# Altium integrated library Analog Devices Data Converters Analog-to-Digital Converters.IntLib: 2404 symbols (part 195 of 346)
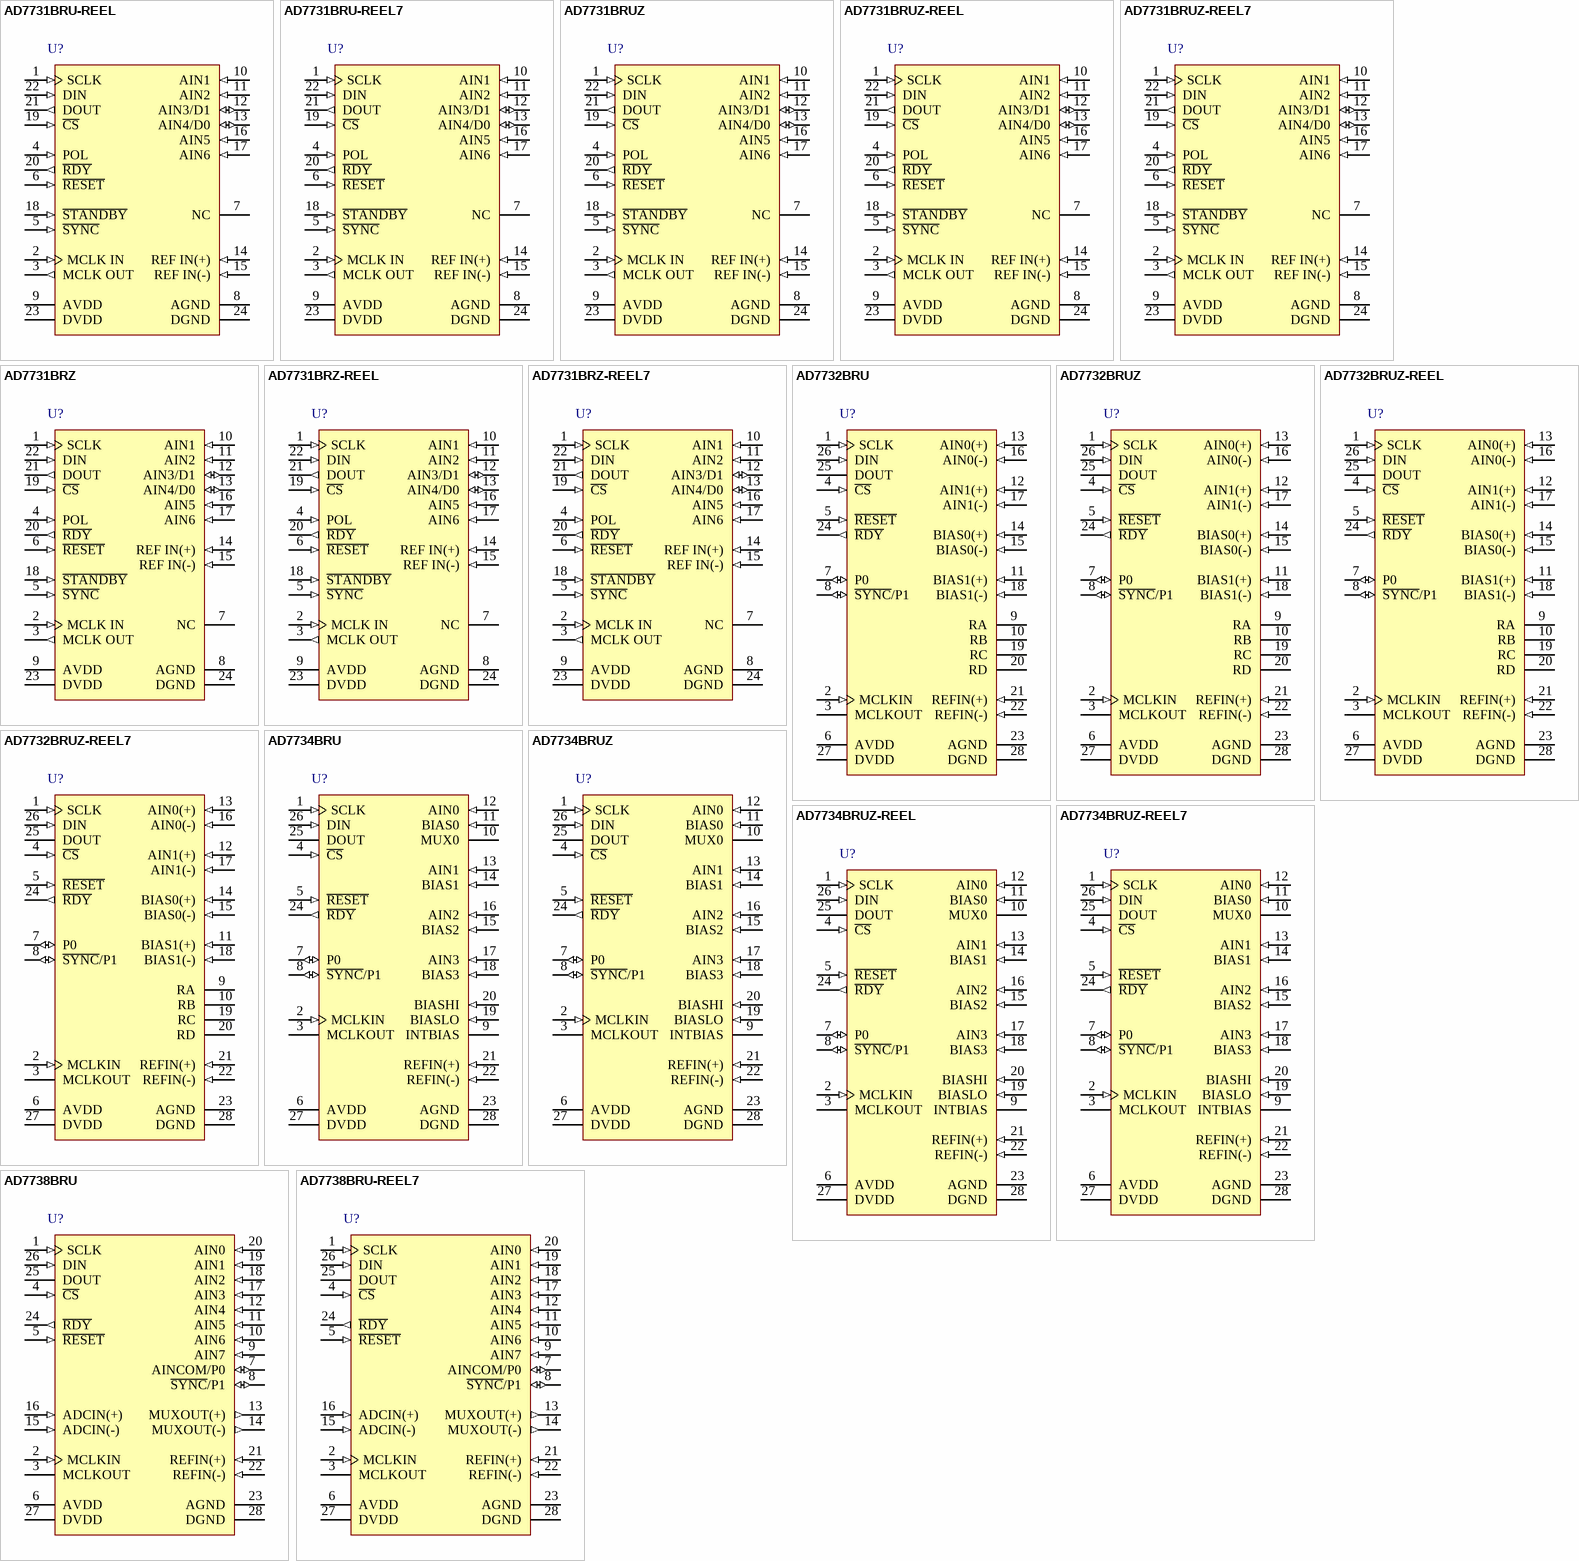
[diagram p260: symbols AD7731BRU-REEL to AD7738BRU-REEL7]

## AD7734BRU
designator U?
Quad 24-Bit Sigma-Delta Analog-to-Digital Converter with Serial, SPI Interface, +/-10 V, 15.4KSPS, -40 to +105 degC, RU-28, Tube; Generic Part Number: AD7734; Manufacturer: Analog Devices; PartNumber: AD7734BRU; Resolution (Bits): 24; Channels: 4; Throughput Rate (SPS): 15.4K; Interface: Ser, SPI; DatasheetVersion: Rev.0; PackageVersion: 2005; PackageReference: RU-28; PackageDescription: 28-Lead Thin Shrink Small Outline Package [TSSOP]; Supplier 1: Digi-Key; Supplier Part Number 1: AD7734BRU-ND; Supplier 2: Mouser; Supplier Part Number 2: 584-AD7734BRU; RoHS: N; Packing: Tube; Mounting Technology: Surface Mount; Code_JEDEC: MO-153-AE; ComponentLink1Description: Manufacturer URL; ComponentLink1URL: http://www.analog.com/en/index.html; ComponentLink2Description: Datasheet; ComponentLink2URL: http://www.analog.com/static/imported-files/data_sheets/AD7734.pdf; ComponentLink3Description: Package Specification; ComponentLink3URL: http://www.analog.com/static/imported-files/packages/249854663RU_28.pdf; ComponentLink4Description: Product URL; ComponentLink4URL: http://www.analog.com/en/analog-to-digital-converters/ad-converters/ad7734/products/product.html
footprint RU-28_N (TSOP, 28-Leads, Body 9.7x4.4mm, Pitch 0.65mm, IPC Medium Density)
footprint RU-28_L (TSOP, 28-Leads, Body 9.7x4.4mm, Pitch 0.65mm, IPC High Density)
footprint RU-28_M (TSOP, 28-Leads, Body 9.7x4.4mm, Pitch 0.65mm, IPC Low Density)
pins: 1 SCLK (in) "Serial Clock. Schmitt triggered logic input. An external serial clock is applied to this input to transfer serial data to or from the AD7734.", 2 MCLKIN (in) "Master Clock Signal for the ADC. This can be provided in the form of a crystal/resonator or external clock. A crystal/resonator can be tied across the MCLKIN and MCLKOUT pins. Alternatively, the MCLKIN pin can be driven with (See Datasheet)", 3 MCLKOUT (hiz) "When the master clock for the device is a crystal/resonator, the crystal/resonator is connected between MCLKIN and MCLKOUT. If an external clock is applied to the MCLKIN, MCLKOUT provides an inverted clock signal or can be (See Datasheet)", 4 ~{CS} (in) "Chip Select. Active low Schmitt triggered logic input with an internal pull-up resistor. With this input hardwired low, the AD7734 can operate in its 3-wire interface mode using SCLK, DIN, and DOUT. C\S\ can be used to (See Datasheet)", 5 ~{RESET} (in) "Schmitt Triggered Logic Input. Active low input that resets the control logic, interface logic, digital filter, analog modulator, and all on-chip registers of the part to power-on status. Effectively, everything on the part (See Datasheet)", 6 AVDD (power) "Analog Positive Supply Voltage. 5 V to AGND nominal.", 7 P0 (io) "Digital Input/Output. The pin direction is determined by the P0 DIR bit; the digital value can be read/written as the P0 bit in the I/O port register. The digital voltage is referenced to analog supplies. When configured as (See Datasheet)", 8 ~{SYNC}/P1 (io) "S\Y\N\C\/Digital Input/Digital Output. The pin direction is determined by the P1 DIR bit; the digital value can be read/written as the P1 bit in the I/O port register. When the SYNC bit in the I/O port register is set to 1, (See Datasheet)", 9 INTBIAS "This pin provides direct access to the analog input’s common node, bypassing the input resistor divider. In normal circuit configuration, this pin is left open circuit.", 10 MUX0 "This pin provides direct access to the multiplexer input of Channel 0, bypassing the input resistor divider. The input voltage range is 0 V to +0.625 V, +/-0.625 V, 0 V to +1.25 V, or +/-1.25 V referenced to the INTBIAS pin. (See Datasheet)", 11 BIAS0 (in) "These inputs are used to level shift the analog inputs. These signals are used to ensure that the differential signal seen by the internal buffer amplifier is within its common-mode range. The BIAS0 to BIAS3 pins will (See Datasheet)", 12 AIN0 (in) "Analog Inputs.", 13 AIN1 (in) "Analog Inputs.", 14 BIAS1 (in) "These inputs are used to level shift the analog inputs. These signals are used to ensure that the differential signal seen by the internal buffer amplifier is within its common-mode range. The BIAS0 to BIAS3 pins will (See Datasheet)", 15 BIAS2 (in) "These inputs are used to level shift the analog inputs. These signals are used to ensure that the differential signal seen by the internal buffer amplifier is within its common-mode range. The BIAS0 to BIAS3 pins will (See Datasheet)", 16 AIN2 (in) "Analog Inputs.", 17 AIN3 (in) "Analog Inputs.", 18 BIAS3 (in) "These inputs are used to level shift the analog inputs. These signals are used to ensure that the differential signal seen by the internal buffer amplifier is within its common-mode range. The BIAS0 to BIAS3 pins will (See Datasheet)", 19 BIASLO (in) "BIASLO, in association with BIASHI, is used to set the analog input common-mode voltage. Assuming the BIAS0 to BIAS3 and BIASHI pins are connected to 2.5 V, the analog input voltages are referenced to the voltage at BIASLO. (See Datasheet)", 20 BIASHI (in) "BIASHI, in association with BIASLO, is used to set the analog input common-mode voltage. In normal circuit configuration, this pin should be connected to 2.5 V.", 21 REFIN(+) (in) "Positive Terminal of the Differential Reference Input. REFIN(+) voltage potential can lie anywhere between AVDD and AGND. In normal circuit configuration, this pin should be connected to a 2.5 V reference voltage.", 22 REFIN(-) (in) "Negative Terminal of the Differential Reference Input. REFIN(-) voltage potential can lie anywhere between AVDD and AGND. In normal circuit configuration, this pin should be connected to a 0 V reference voltage.", 23 AGND (power) "Ground Reference Point for Analog Circuitry.", 24 ~{RDY} (out) "Logic Output. Used as a status output in both conversion mode and calibration mode. In conversion mode, a falling edge on this output indicates that either any channel or all channels have unread data available, according to (See Datasheet)", 25 DOUT (hiz) "Serial data output with serial data being read from the output shift register on the part. This output shift register can contain information from any AD7734 register, depending on the address bits of the communications (See Datasheet)", 26 DIN (in) "Serial data input (Schmitt triggered) with serial data being written to the input shift register on the part. Data from this input shift register is transferred to any AD7734 register, depending on the address bits of the (See Datasheet)", 27 DVDD (power) "Digital Supply Voltage, 3 V or 5 V Nominal.", 28 DGND (power) "Ground Reference Point for Digital Circuitry."

## AD7734BRUZ
designator U?
Quad 24-Bit Sigma-Delta Analog-to-Digital Converter with Serial, SPI Interface, +/-10 V, 15.4KSPS, -40 to +105 degC, RU-28, Pb-Free, Tube; Generic Part Number: AD7734; Manufacturer: Analog Devices; PartNumber: AD7734BRUZ; Resolution (Bits): 24; Channels: 4; Throughput Rate (SPS): 15.4K; Interface: Ser, SPI; DatasheetVersion: Rev.0; PackageVersion: 2005; PackageReference: RU-28; PackageDescription: 28-Lead Thin Shrink Small Outline Package [TSSOP]; Supplier 1: Digi-Key; Supplier Part Number 1: AD7734BRUZ-ND; Supplier 2: Farnell; Supplier Part Number 2: 1581938; Supplier 3: Newark; Supplier Part Number 3: 19M8852; Supplier 4: Mouser; Supplier Part Number 4: 584-AD7734BRUZ; RoHS: Y; Packing: Tube; Mounting Technology: Surface Mount; Code_JEDEC: MO-153-AE; ComponentLink1Description: Manufacturer URL; ComponentLink1URL: http://www.analog.com/en/index.html; ComponentLink2Description: Datasheet; ComponentLink2URL: http://www.analog.com/static/imported-files/data_sheets/AD7734.pdf; ComponentLink3Description: Package Specification; ComponentLink3URL: http://www.analog.com/static/imported-files/packages/249854663RU_28.pdf; ComponentLink4Description: Product URL; ComponentLink4URL: http://www.analog.com/en/analog-to-digital-converters/ad-converters/ad7734/products/product.html
footprint RU-28_N (TSOP, 28-Leads, Body 9.7x4.4mm, Pitch 0.65mm, IPC Medium Density)
footprint RU-28_L (TSOP, 28-Leads, Body 9.7x4.4mm, Pitch 0.65mm, IPC High Density)
footprint RU-28_M (TSOP, 28-Leads, Body 9.7x4.4mm, Pitch 0.65mm, IPC Low Density)
pins: 1 SCLK (in) "Serial Clock. Schmitt triggered logic input. An external serial clock is applied to this input to transfer serial data to or from the AD7734.", 2 MCLKIN (in) "Master Clock Signal for the ADC. This can be provided in the form of a crystal/resonator or external clock. A crystal/resonator can be tied across the MCLKIN and MCLKOUT pins. Alternatively, the MCLKIN pin can be driven with (See Datasheet)", 3 MCLKOUT (hiz) "When the master clock for the device is a crystal/resonator, the crystal/resonator is connected between MCLKIN and MCLKOUT. If an external clock is applied to the MCLKIN, MCLKOUT provides an inverted clock signal or can be (See Datasheet)", 4 ~{CS} (in) "Chip Select. Active low Schmitt triggered logic input with an internal pull-up resistor. With this input hardwired low, the AD7734 can operate in its 3-wire interface mode using SCLK, DIN, and DOUT. C\S\ can be used to (See Datasheet)", 5 ~{RESET} (in) "Schmitt Triggered Logic Input. Active low input that resets the control logic, interface logic, digital filter, analog modulator, and all on-chip registers of the part to power-on status. Effectively, everything on the part (See Datasheet)", 6 AVDD (power) "Analog Positive Supply Voltage. 5 V to AGND nominal.", 7 P0 (io) "Digital Input/Output. The pin direction is determined by the P0 DIR bit; the digital value can be read/written as the P0 bit in the I/O port register. The digital voltage is referenced to analog supplies. When configured as (See Datasheet)", 8 ~{SYNC}/P1 (io) "S\Y\N\C\/Digital Input/Digital Output. The pin direction is determined by the P1 DIR bit; the digital value can be read/written as the P1 bit in the I/O port register. When the SYNC bit in the I/O port register is set to 1, (See Datasheet)", 9 INTBIAS "This pin provides direct access to the analog input’s common node, bypassing the input resistor divider. In normal circuit configuration, this pin is left open circuit.", 10 MUX0 "This pin provides direct access to the multiplexer input of Channel 0, bypassing the input resistor divider. The input voltage range is 0 V to +0.625 V, +/-0.625 V, 0 V to +1.25 V, or +/-1.25 V referenced to the INTBIAS pin. (See Datasheet)", 11 BIAS0 (in) "These inputs are used to level shift the analog inputs. These signals are used to ensure that the differential signal seen by the internal buffer amplifier is within its common-mode range. The BIAS0 to BIAS3 pins will (See Datasheet)", 12 AIN0 (in) "Analog Inputs.", 13 AIN1 (in) "Analog Inputs.", 14 BIAS1 (in) "These inputs are used to level shift the analog inputs. These signals are used to ensure that the differential signal seen by the internal buffer amplifier is within its common-mode range. The BIAS0 to BIAS3 pins will (See Datasheet)", 15 BIAS2 (in) "These inputs are used to level shift the analog inputs. These signals are used to ensure that the differential signal seen by the internal buffer amplifier is within its common-mode range. The BIAS0 to BIAS3 pins will (See Datasheet)", 16 AIN2 (in) "Analog Inputs.", 17 AIN3 (in) "Analog Inputs.", 18 BIAS3 (in) "These inputs are used to level shift the analog inputs. These signals are used to ensure that the differential signal seen by the internal buffer amplifier is within its common-mode range. The BIAS0 to BIAS3 pins will (See Datasheet)", 19 BIASLO (in) "BIASLO, in association with BIASHI, is used to set the analog input common-mode voltage. Assuming the BIAS0 to BIAS3 and BIASHI pins are connected to 2.5 V, the analog input voltages are referenced to the voltage at BIASLO. (See Datasheet)", 20 BIASHI (in) "BIASHI, in association with BIASLO, is used to set the analog input common-mode voltage. In normal circuit configuration, this pin should be connected to 2.5 V.", 21 REFIN(+) (in) "Positive Terminal of the Differential Reference Input. REFIN(+) voltage potential can lie anywhere between AVDD and AGND. In normal circuit configuration, this pin should be connected to a 2.5 V reference voltage.", 22 REFIN(-) (in) "Negative Terminal of the Differential Reference Input. REFIN(-) voltage potential can lie anywhere between AVDD and AGND. In normal circuit configuration, this pin should be connected to a 0 V reference voltage.", 23 AGND (power) "Ground Reference Point for Analog Circuitry.", 24 ~{RDY} (out) "Logic Output. Used as a status output in both conversion mode and calibration mode. In conversion mode, a falling edge on this output indicates that either any channel or all channels have unread data available, according to (See Datasheet)", 25 DOUT (hiz) "Serial data output with serial data being read from the output shift register on the part. This output shift register can contain information from any AD7734 register, depending on the address bits of the communications (See Datasheet)", 26 DIN (in) "Serial data input (Schmitt triggered) with serial data being written to the input shift register on the part. Data from this input shift register is transferred to any AD7734 register, depending on the address bits of the (See Datasheet)", 27 DVDD (power) "Digital Supply Voltage, 3 V or 5 V Nominal.", 28 DGND (power) "Ground Reference Point for Digital Circuitry."

## AD7734BRUZ-REEL
designator U?
Quad 24-Bit Sigma-Delta Analog-to-Digital Converter with Serial, SPI Interface, +/-10 V, 15.4KSPS, -40 to +105 degC, RU-28, Pb-Free, Reel; Generic Part Number: AD7734; Manufacturer: Analog Devices; PartNumber: AD7734BRUZ-REEL; Resolution (Bits): 24; Channels: 4; Throughput Rate (SPS): 15.4K; Interface: Ser, SPI; DatasheetVersion: Rev.0; PackageVersion: 2005; PackageReference: RU-28; PackageDescription: 28-Lead Thin Shrink Small Outline Package [TSSOP]; Supplier 1: Digi-Key; Supplier Part Number 1: AD7734BRUZ-REEL-ND; Supplier 2: Mouser; Supplier Part Number 2: 584-AD7734BRUZ-R; RoHS: Y; Packing: Reel; Mounting Technology: Surface Mount; Code_JEDEC: MO-153-AE; ComponentLink1Description: Manufacturer URL; ComponentLink1URL: http://www.analog.com/en/index.html; ComponentLink2Description: Datasheet; ComponentLink2URL: http://www.analog.com/static/imported-files/data_sheets/AD7734.pdf; ComponentLink3Description: Package Specification; ComponentLink3URL: http://www.analog.com/static/imported-files/packages/249854663RU_28.pdf; ComponentLink4Description: Product URL; ComponentLink4URL: http://www.analog.com/en/analog-to-digital-converters/ad-converters/ad7734/products/product.html
footprint RU-28_N (TSOP, 28-Leads, Body 9.7x4.4mm, Pitch 0.65mm, IPC Medium Density)
footprint RU-28_L (TSOP, 28-Leads, Body 9.7x4.4mm, Pitch 0.65mm, IPC High Density)
footprint RU-28_M (TSOP, 28-Leads, Body 9.7x4.4mm, Pitch 0.65mm, IPC Low Density)
pins: 1 SCLK (in) "Serial Clock. Schmitt triggered logic input. An external serial clock is applied to this input to transfer serial data to or from the AD7734.", 2 MCLKIN (in) "Master Clock Signal for the ADC. This can be provided in the form of a crystal/resonator or external clock. A crystal/resonator can be tied across the MCLKIN and MCLKOUT pins. Alternatively, the MCLKIN pin can be driven with (See Datasheet)", 3 MCLKOUT (hiz) "When the master clock for the device is a crystal/resonator, the crystal/resonator is connected between MCLKIN and MCLKOUT. If an external clock is applied to the MCLKIN, MCLKOUT provides an inverted clock signal or can be (See Datasheet)", 4 ~{CS} (in) "Chip Select. Active low Schmitt triggered logic input with an internal pull-up resistor. With this input hardwired low, the AD7734 can operate in its 3-wire interface mode using SCLK, DIN, and DOUT. C\S\ can be used to (See Datasheet)", 5 ~{RESET} (in) "Schmitt Triggered Logic Input. Active low input that resets the control logic, interface logic, digital filter, analog modulator, and all on-chip registers of the part to power-on status. Effectively, everything on the part (See Datasheet)", 6 AVDD (power) "Analog Positive Supply Voltage. 5 V to AGND nominal.", 7 P0 (io) "Digital Input/Output. The pin direction is determined by the P0 DIR bit; the digital value can be read/written as the P0 bit in the I/O port register. The digital voltage is referenced to analog supplies. When configured as (See Datasheet)", 8 ~{SYNC}/P1 (io) "S\Y\N\C\/Digital Input/Digital Output. The pin direction is determined by the P1 DIR bit; the digital value can be read/written as the P1 bit in the I/O port register. When the SYNC bit in the I/O port register is set to 1, (See Datasheet)", 9 INTBIAS "This pin provides direct access to the analog input’s common node, bypassing the input resistor divider. In normal circuit configuration, this pin is left open circuit.", 10 MUX0 "This pin provides direct access to the multiplexer input of Channel 0, bypassing the input resistor divider. The input voltage range is 0 V to +0.625 V, +/-0.625 V, 0 V to +1.25 V, or +/-1.25 V referenced to the INTBIAS pin. (See Datasheet)", 11 BIAS0 (in) "These inputs are used to level shift the analog inputs. These signals are used to ensure that the differential signal seen by the internal buffer amplifier is within its common-mode range. The BIAS0 to BIAS3 pins will (See Datasheet)", 12 AIN0 (in) "Analog Inputs.", 13 AIN1 (in) "Analog Inputs.", 14 BIAS1 (in) "These inputs are used to level shift the analog inputs. These signals are used to ensure that the differential signal seen by the internal buffer amplifier is within its common-mode range. The BIAS0 to BIAS3 pins will (See Datasheet)", 15 BIAS2 (in) "These inputs are used to level shift the analog inputs. These signals are used to ensure that the differential signal seen by the internal buffer amplifier is within its common-mode range. The BIAS0 to BIAS3 pins will (See Datasheet)", 16 AIN2 (in) "Analog Inputs.", 17 AIN3 (in) "Analog Inputs.", 18 BIAS3 (in) "These inputs are used to level shift the analog inputs. These signals are used to ensure that the differential signal seen by the internal buffer amplifier is within its common-mode range. The BIAS0 to BIAS3 pins will (See Datasheet)", 19 BIASLO (in) "BIASLO, in association with BIASHI, is used to set the analog input common-mode voltage. Assuming the BIAS0 to BIAS3 and BIASHI pins are connected to 2.5 V, the analog input voltages are referenced to the voltage at BIASLO. (See Datasheet)", 20 BIASHI (in) "BIASHI, in association with BIASLO, is used to set the analog input common-mode voltage. In normal circuit configuration, this pin should be connected to 2.5 V.", 21 REFIN(+) (in) "Positive Terminal of the Differential Reference Input. REFIN(+) voltage potential can lie anywhere between AVDD and AGND. In normal circuit configuration, this pin should be connected to a 2.5 V reference voltage.", 22 REFIN(-) (in) "Negative Terminal of the Differential Reference Input. REFIN(-) voltage potential can lie anywhere between AVDD and AGND. In normal circuit configuration, this pin should be connected to a 0 V reference voltage.", 23 AGND (power) "Ground Reference Point for Analog Circuitry.", 24 ~{RDY} (out) "Logic Output. Used as a status output in both conversion mode and calibration mode. In conversion mode, a falling edge on this output indicates that either any channel or all channels have unread data available, according to (See Datasheet)", 25 DOUT (hiz) "Serial data output with serial data being read from the output shift register on the part. This output shift register can contain information from any AD7734 register, depending on the address bits of the communications (See Datasheet)", 26 DIN (in) "Serial data input (Schmitt triggered) with serial data being written to the input shift register on the part. Data from this input shift register is transferred to any AD7734 register, depending on the address bits of the (See Datasheet)", 27 DVDD (power) "Digital Supply Voltage, 3 V or 5 V Nominal.", 28 DGND (power) "Ground Reference Point for Digital Circuitry."

## AD7734BRUZ-REEL7
designator U?
Quad 24-Bit Sigma-Delta Analog-to-Digital Converter with Serial, SPI Interface, +/-10 V, 15.4KSPS, -40 to +105 degC, RU-28, Pb-Free, Reel; Generic Part Number: AD7734; Manufacturer: Analog Devices; PartNumber: AD7734BRUZ-REEL7; Resolution (Bits): 24; Channels: 4; Throughput Rate (SPS): 15.4K; Interface: Ser, SPI; DatasheetVersion: Rev.0; PackageVersion: 2005; PackageReference: RU-28; PackageDescription: 28-Lead Thin Shrink Small Outline Package [TSSOP]; Supplier 1: Digi-Key; Supplier Part Number 1: AD7734BRUZ-REEL7TR-ND; Supplier 2: Digi-Key; Supplier Part Number 2: AD7734BRUZ-REEL7CT-ND; Supplier 3: Digi-Key; Supplier Part Number 3: AD7734BRUZ-REEL7DKR-ND; Supplier 4: Newark; Supplier Part Number 4: 59K5397; Supplier 5: Mouser; Supplier Part Number 5: 584-AD7734BRUZ-R7; RoHS: Y; Packing: Reel; Mounting Technology: Surface Mount; Code_JEDEC: MO-153-AE; ComponentLink1Description: Manufacturer URL; ComponentLink1URL: http://www.analog.com/en/index.html; ComponentLink2Description: Datasheet; ComponentLink2URL: http://www.analog.com/static/imported-files/data_sheets/AD7734.pdf; ComponentLink3Description: Package Specification; ComponentLink3URL: http://www.analog.com/static/imported-files/packages/249854663RU_28.pdf; ComponentLink4Description: Product URL; ComponentLink4URL: http://www.analog.com/en/analog-to-digital-converters/ad-converters/ad7734/products/product.html
footprint RU-28_N (TSOP, 28-Leads, Body 9.7x4.4mm, Pitch 0.65mm, IPC Medium Density)
footprint RU-28_L (TSOP, 28-Leads, Body 9.7x4.4mm, Pitch 0.65mm, IPC High Density)
footprint RU-28_M (TSOP, 28-Leads, Body 9.7x4.4mm, Pitch 0.65mm, IPC Low Density)
pins: 1 SCLK (in) "Serial Clock. Schmitt triggered logic input. An external serial clock is applied to this input to transfer serial data to or from the AD7734.", 2 MCLKIN (in) "Master Clock Signal for the ADC. This can be provided in the form of a crystal/resonator or external clock. A crystal/resonator can be tied across the MCLKIN and MCLKOUT pins. Alternatively, the MCLKIN pin can be driven with (See Datasheet)", 3 MCLKOUT (hiz) "When the master clock for the device is a crystal/resonator, the crystal/resonator is connected between MCLKIN and MCLKOUT. If an external clock is applied to the MCLKIN, MCLKOUT provides an inverted clock signal or can be (See Datasheet)", 4 ~{CS} (in) "Chip Select. Active low Schmitt triggered logic input with an internal pull-up resistor. With this input hardwired low, the AD7734 can operate in its 3-wire interface mode using SCLK, DIN, and DOUT. C\S\ can be used to (See Datasheet)", 5 ~{RESET} (in) "Schmitt Triggered Logic Input. Active low input that resets the control logic, interface logic, digital filter, analog modulator, and all on-chip registers of the part to power-on status. Effectively, everything on the part (See Datasheet)", 6 AVDD (power) "Analog Positive Supply Voltage. 5 V to AGND nominal.", 7 P0 (io) "Digital Input/Output. The pin direction is determined by the P0 DIR bit; the digital value can be read/written as the P0 bit in the I/O port register. The digital voltage is referenced to analog supplies. When configured as (See Datasheet)", 8 ~{SYNC}/P1 (io) "S\Y\N\C\/Digital Input/Digital Output. The pin direction is determined by the P1 DIR bit; the digital value can be read/written as the P1 bit in the I/O port register. When the SYNC bit in the I/O port register is set to 1, (See Datasheet)", 9 INTBIAS "This pin provides direct access to the analog input’s common node, bypassing the input resistor divider. In normal circuit configuration, this pin is left open circuit.", 10 MUX0 "This pin provides direct access to the multiplexer input of Channel 0, bypassing the input resistor divider. The input voltage range is 0 V to +0.625 V, +/-0.625 V, 0 V to +1.25 V, or +/-1.25 V referenced to the INTBIAS pin. (See Datasheet)", 11 BIAS0 (in) "These inputs are used to level shift the analog inputs. These signals are used to ensure that the differential signal seen by the internal buffer amplifier is within its common-mode range. The BIAS0 to BIAS3 pins will (See Datasheet)", 12 AIN0 (in) "Analog Inputs.", 13 AIN1 (in) "Analog Inputs.", 14 BIAS1 (in) "These inputs are used to level shift the analog inputs. These signals are used to ensure that the differential signal seen by the internal buffer amplifier is within its common-mode range. The BIAS0 to BIAS3 pins will (See Datasheet)", 15 BIAS2 (in) "These inputs are used to level shift the analog inputs. These signals are used to ensure that the differential signal seen by the internal buffer amplifier is within its common-mode range. The BIAS0 to BIAS3 pins will (See Datasheet)", 16 AIN2 (in) "Analog Inputs.", 17 AIN3 (in) "Analog Inputs.", 18 BIAS3 (in) "These inputs are used to level shift the analog inputs. These signals are used to ensure that the differential signal seen by the internal buffer amplifier is within its common-mode range. The BIAS0 to BIAS3 pins will (See Datasheet)", 19 BIASLO (in) "BIASLO, in association with BIASHI, is used to set the analog input common-mode voltage. Assuming the BIAS0 to BIAS3 and BIASHI pins are connected to 2.5 V, the analog input voltages are referenced to the voltage at BIASLO. (See Datasheet)", 20 BIASHI (in) "BIASHI, in association with BIASLO, is used to set the analog input common-mode voltage. In normal circuit configuration, this pin should be connected to 2.5 V.", 21 REFIN(+) (in) "Positive Terminal of the Differential Reference Input. REFIN(+) voltage potential can lie anywhere between AVDD and AGND. In normal circuit configuration, this pin should be connected to a 2.5 V reference voltage.", 22 REFIN(-) (in) "Negative Terminal of the Differential Reference Input. REFIN(-) voltage potential can lie anywhere between AVDD and AGND. In normal circuit configuration, this pin should be connected to a 0 V reference voltage.", 23 AGND (power) "Ground Reference Point for Analog Circuitry.", 24 ~{RDY} (out) "Logic Output. Used as a status output in both conversion mode and calibration mode. In conversion mode, a falling edge on this output indicates that either any channel or all channels have unread data available, according to (See Datasheet)", 25 DOUT (hiz) "Serial data output with serial data being read from the output shift register on the part. This output shift register can contain information from any AD7734 register, depending on the address bits of the communications (See Datasheet)", 26 DIN (in) "Serial data input (Schmitt triggered) with serial data being written to the input shift register on the part. Data from this input shift register is transferred to any AD7734 register, depending on the address bits of the (See Datasheet)", 27 DVDD (power) "Digital Supply Voltage, 3 V or 5 V Nominal.", 28 DGND (power) "Ground Reference Point for Digital Circuitry."

## AD7738BRU
designator U?
Octal 24-Bit Sigma-Delta Analog-to-Digital Converter with Serial, SPI Interface, 15.4KSPS, -40 to +105 degC, RU-28, Tube; Generic Part Number: AD7738; Manufacturer: Analog Devices; PartNumber: AD7738BRU; Resolution (Bits): 24; Channels: 8; Throughput Rate (SPS): 15.4K; Interface: Ser, SPI; DatasheetVersion: Rev.0; PackageVersion: 2005; PackageReference: RU-28; PackageDescription: 28-Lead Thin Shrink Small Outline Package [TSSOP]; Supplier 1: Digi-Key; Supplier Part Number 1: AD7738BRU-ND; Supplier 2: Mouser; Supplier Part Number 2: 584-AD7738BRU; RoHS: N; Packing: Tube; Mounting Technology: Surface Mount; Code_JEDEC: MO-153-AE; ComponentLink1Description: Manufacturer URL; ComponentLink1URL: http://www.analog.com/en/index.html; ComponentLink2Description: Datasheet; ComponentLink2URL: http://www.analog.com/static/imported-files/data_sheets/AD7738.pdf; ComponentLink3Description: Package Specification; ComponentLink3URL: http://www.analog.com/static/imported-files/packages/249854663RU_28.pdf; ComponentLink4Description: Product URL; ComponentLink4URL: http://www.analog.com/en/analog-to-digital-converters/ad-converters/ad7738/products/product.html
footprint RU-28_N (TSOP, 28-Leads, Body 9.7x4.4mm, Pitch 0.65mm, IPC Medium Density)
footprint RU-28_L (TSOP, 28-Leads, Body 9.7x4.4mm, Pitch 0.65mm, IPC High Density)
footprint RU-28_M (TSOP, 28-Leads, Body 9.7x4.4mm, Pitch 0.65mm, IPC Low Density)
pins: 1 SCLK (in) "Serial Clock. Schmitt-Triggered Logic Input. An external serial clock is applied to this input to transfer serial data to or from the AD7738.", 2 MCLKIN (in) "Master Clock Signal for the ADC. This can be provided in the form of a crystal/resonator or external clock. A crystal/resonator can be tied across the MCLKIN and MCLKOUT pins. Alternatively, the MCLKIN pin can be driven with (See Datasheet)", 3 MCLKOUT (hiz) "When the master clock for the device is a crystal/resonator, the crystal/resonator is connected between MCLKIN and MCLKOUT. If an external clock is applied to the MCLKIN, MCLKOUT provides an inverted clock signal or can be (See Datasheet)", 4 ~{CS} (in) "Chip Select. Active low Schmitt triggered logic input with an internal pull-up resistor. With this input hardwired low, the AD7738 can operate in its 3-wire interface mode using SCLK, DIN, and DOUT. C\S\ can be used to (See Datasheet)", 5 ~{RESET} (in) "Schmitt-Triggered Logic Input. Active low input that resets the control logic, interface logic, digital filter, analog modulator, and all on-chip registers of the part to power-on status. Effectively, everything on the part (See Datasheet)", 6 AVDD (power) "Analog Positive Supply Voltage. 5 V to AGND nominal.", 7 AINCOM/P0 (io) "Analog Inputs Common Terminal/Digital Output. The pin is determined by the P0 Dir bit; the digital value can be written as the P0 bit in the I/O Port register. The digital voltage is referenced to analog supplies. When (See Datasheet)", 8 ~{SYNC}/P1 (io) "S\Y\N\C\/Digital Input/Digital Output. The pin direction is determined by the P1 Dir bit; the digital value can be read/written as the P1 bit in the I/O Port register. When the SYNC Enable bit in the I/O Port register is set (See Datasheet)", 9 AIN7 (in) "Analog Inputs", 10 AIN6 (in) "Analog Inputs", 11 AIN5 (in) "Analog Inputs", 12 AIN4 (in) "Analog Inputs", 13 MUXOUT(+) (out) "Analog Multiplexer Positive Output", 14 MUXOUT(-) (out) "Analog Multiplexer Negative Output", 15 ADCIN(-) (in) "ADC Negative Input. In normal circuit configuration, this pin should be connected to the MUXOUT- pin.", 16 ADCIN(+) (in) "ADC Positive Input. In normal circuit configuration, this pin should be connected to the MUXOUT+ pin.", 17 AIN3 (in) "Analog Inputs", 18 AIN2 (in) "Analog Inputs", 19 AIN1 (in) "Analog Inputs", 20 AIN0 (in) "Analog Inputs", 21 REFIN(+) (in) "Positive Terminal of the Differential Reference Input. REFIN+ voltage potential can lie any where between AVDD and AGND. In normal circuit configuration, this pin should be connected to a 2.5 V reference voltage.", 22 REFIN(-) (in) "Negative Terminal of the Differential Reference Input. REFIN- voltage potential can lie any where between AVDD and AGND. In normal circuit configuration, this pin should be connected to a 0 V reference voltage.", 23 AGND (power) "Ground Reference Point for Analog Circuitry", 24 ~{RDY} (out) "Logic Output. Used as a status output in both conversion mode and calibration mode. In conversion mode, a falling edge on this output indicates that either any channel or all channels have unread data available--according to (See Datasheet)", 25 DOUT (hiz) "Serial Data Output with serial data being read from the output shift register on the part. This output shift register can contain information from any AD7738 register depending on the address bits of the Communications (See Datasheet)", 26 DIN (in) "Serial Data Input (Schmitt triggered) with serial data being written to the input shift register on the part. Data from this input shift register is transferred to any AD7738 register depending on the address bits of the (See Datasheet)", 27 DVDD (power) "Digital Supply Voltage, 3 V or 5 V Nominal", 28 DGND (power) "Ground Reference Point for Digital Circuitry"

## AD7738BRU-REEL7
designator U?
Octal 24-Bit Sigma-Delta Analog-to-Digital Converter with Serial, SPI Interface, 15.4KSPS, -40 to +105 degC, RU-28, Reel; Generic Part Number: AD7738; Manufacturer: Analog Devices; PartNumber: AD7738BRU-REEL7; Resolution (Bits): 24; Channels: 8; Throughput Rate (SPS): 15.4K; Interface: Ser, SPI; DatasheetVersion: Rev.0; PackageVersion: 2005; PackageReference: RU-28; PackageDescription: 28-Lead Thin Shrink Small Outline Package [TSSOP]; Supplier 1: Digi-Key; Supplier Part Number 1: AD7738BRU-REEL7-ND; Supplier 2: Newark; Supplier Part Number 2: 50H3224; Supplier 3: Mouser; Supplier Part Number 3: 584-AD7738BRU-R7; RoHS: N; Packing: Reel; Mounting Technology: Surface Mount; Code_JEDEC: MO-153-AE; ComponentLink1Description: Manufacturer URL; ComponentLink1URL: http://www.analog.com/en/index.html; ComponentLink2Description: Datasheet; ComponentLink2URL: http://www.analog.com/static/imported-files/data_sheets/AD7738.pdf; ComponentLink3Description: Package Specification; ComponentLink3URL: http://www.analog.com/static/imported-files/packages/249854663RU_28.pdf; ComponentLink4Description: Product URL; ComponentLink4URL: http://www.analog.com/en/analog-to-digital-converters/ad-converters/ad7738/products/product.html
footprint RU-28_N (TSOP, 28-Leads, Body 9.7x4.4mm, Pitch 0.65mm, IPC Medium Density)
footprint RU-28_L (TSOP, 28-Leads, Body 9.7x4.4mm, Pitch 0.65mm, IPC High Density)
footprint RU-28_M (TSOP, 28-Leads, Body 9.7x4.4mm, Pitch 0.65mm, IPC Low Density)
pins: 1 SCLK (in) "Serial Clock. Schmitt-Triggered Logic Input. An external serial clock is applied to this input to transfer serial data to or from the AD7738.", 2 MCLKIN (in) "Master Clock Signal for the ADC. This can be provided in the form of a crystal/resonator or external clock. A crystal/resonator can be tied across the MCLKIN and MCLKOUT pins. Alternatively, the MCLKIN pin can be driven with (See Datasheet)", 3 MCLKOUT (hiz) "When the master clock for the device is a crystal/resonator, the crystal/resonator is connected between MCLKIN and MCLKOUT. If an external clock is applied to the MCLKIN, MCLKOUT provides an inverted clock signal or can be (See Datasheet)", 4 ~{CS} (in) "Chip Select. Active low Schmitt triggered logic input with an internal pull-up resistor. With this input hardwired low, the AD7738 can operate in its 3-wire interface mode using SCLK, DIN, and DOUT. C\S\ can be used to (See Datasheet)", 5 ~{RESET} (in) "Schmitt-Triggered Logic Input. Active low input that resets the control logic, interface logic, digital filter, analog modulator, and all on-chip registers of the part to power-on status. Effectively, everything on the part (See Datasheet)", 6 AVDD (power) "Analog Positive Supply Voltage. 5 V to AGND nominal.", 7 AINCOM/P0 (io) "Analog Inputs Common Terminal/Digital Output. The pin is determined by the P0 Dir bit; the digital value can be written as the P0 bit in the I/O Port register. The digital voltage is referenced to analog supplies. When (See Datasheet)", 8 ~{SYNC}/P1 (io) "S\Y\N\C\/Digital Input/Digital Output. The pin direction is determined by the P1 Dir bit; the digital value can be read/written as the P1 bit in the I/O Port register. When the SYNC Enable bit in the I/O Port register is set (See Datasheet)", 9 AIN7 (in) "Analog Inputs", 10 AIN6 (in) "Analog Inputs", 11 AIN5 (in) "Analog Inputs", 12 AIN4 (in) "Analog Inputs", 13 MUXOUT(+) (out) "Analog Multiplexer Positive Output", 14 MUXOUT(-) (out) "Analog Multiplexer Negative Output", 15 ADCIN(-) (in) "ADC Negative Input. In normal circuit configuration, this pin should be connected to the MUXOUT- pin.", 16 ADCIN(+) (in) "ADC Positive Input. In normal circuit configuration, this pin should be connected to the MUXOUT+ pin.", 17 AIN3 (in) "Analog Inputs", 18 AIN2 (in) "Analog Inputs", 19 AIN1 (in) "Analog Inputs", 20 AIN0 (in) "Analog Inputs", 21 REFIN(+) (in) "Positive Terminal of the Differential Reference Input. REFIN+ voltage potential can lie any where between AVDD and AGND. In normal circuit configuration, this pin should be connected to a 2.5 V reference voltage.", 22 REFIN(-) (in) "Negative Terminal of the Differential Reference Input. REFIN- voltage potential can lie any where between AVDD and AGND. In normal circuit configuration, this pin should be connected to a 0 V reference voltage.", 23 AGND (power) "Ground Reference Point for Analog Circuitry", 24 ~{RDY} (out) "Logic Output. Used as a status output in both conversion mode and calibration mode. In conversion mode, a falling edge on this output indicates that either any channel or all channels have unread data available--according to (See Datasheet)", 25 DOUT (hiz) "Serial Data Output with serial data being read from the output shift register on the part. This output shift register can contain information from any AD7738 register depending on the address bits of the Communications (See Datasheet)", 26 DIN (in) "Serial Data Input (Schmitt triggered) with serial data being written to the input shift register on the part. Data from this input shift register is transferred to any AD7738 register depending on the address bits of the (See Datasheet)", 27 DVDD (power) "Digital Supply Voltage, 3 V or 5 V Nominal", 28 DGND (power) "Ground Reference Point for Digital Circuitry"

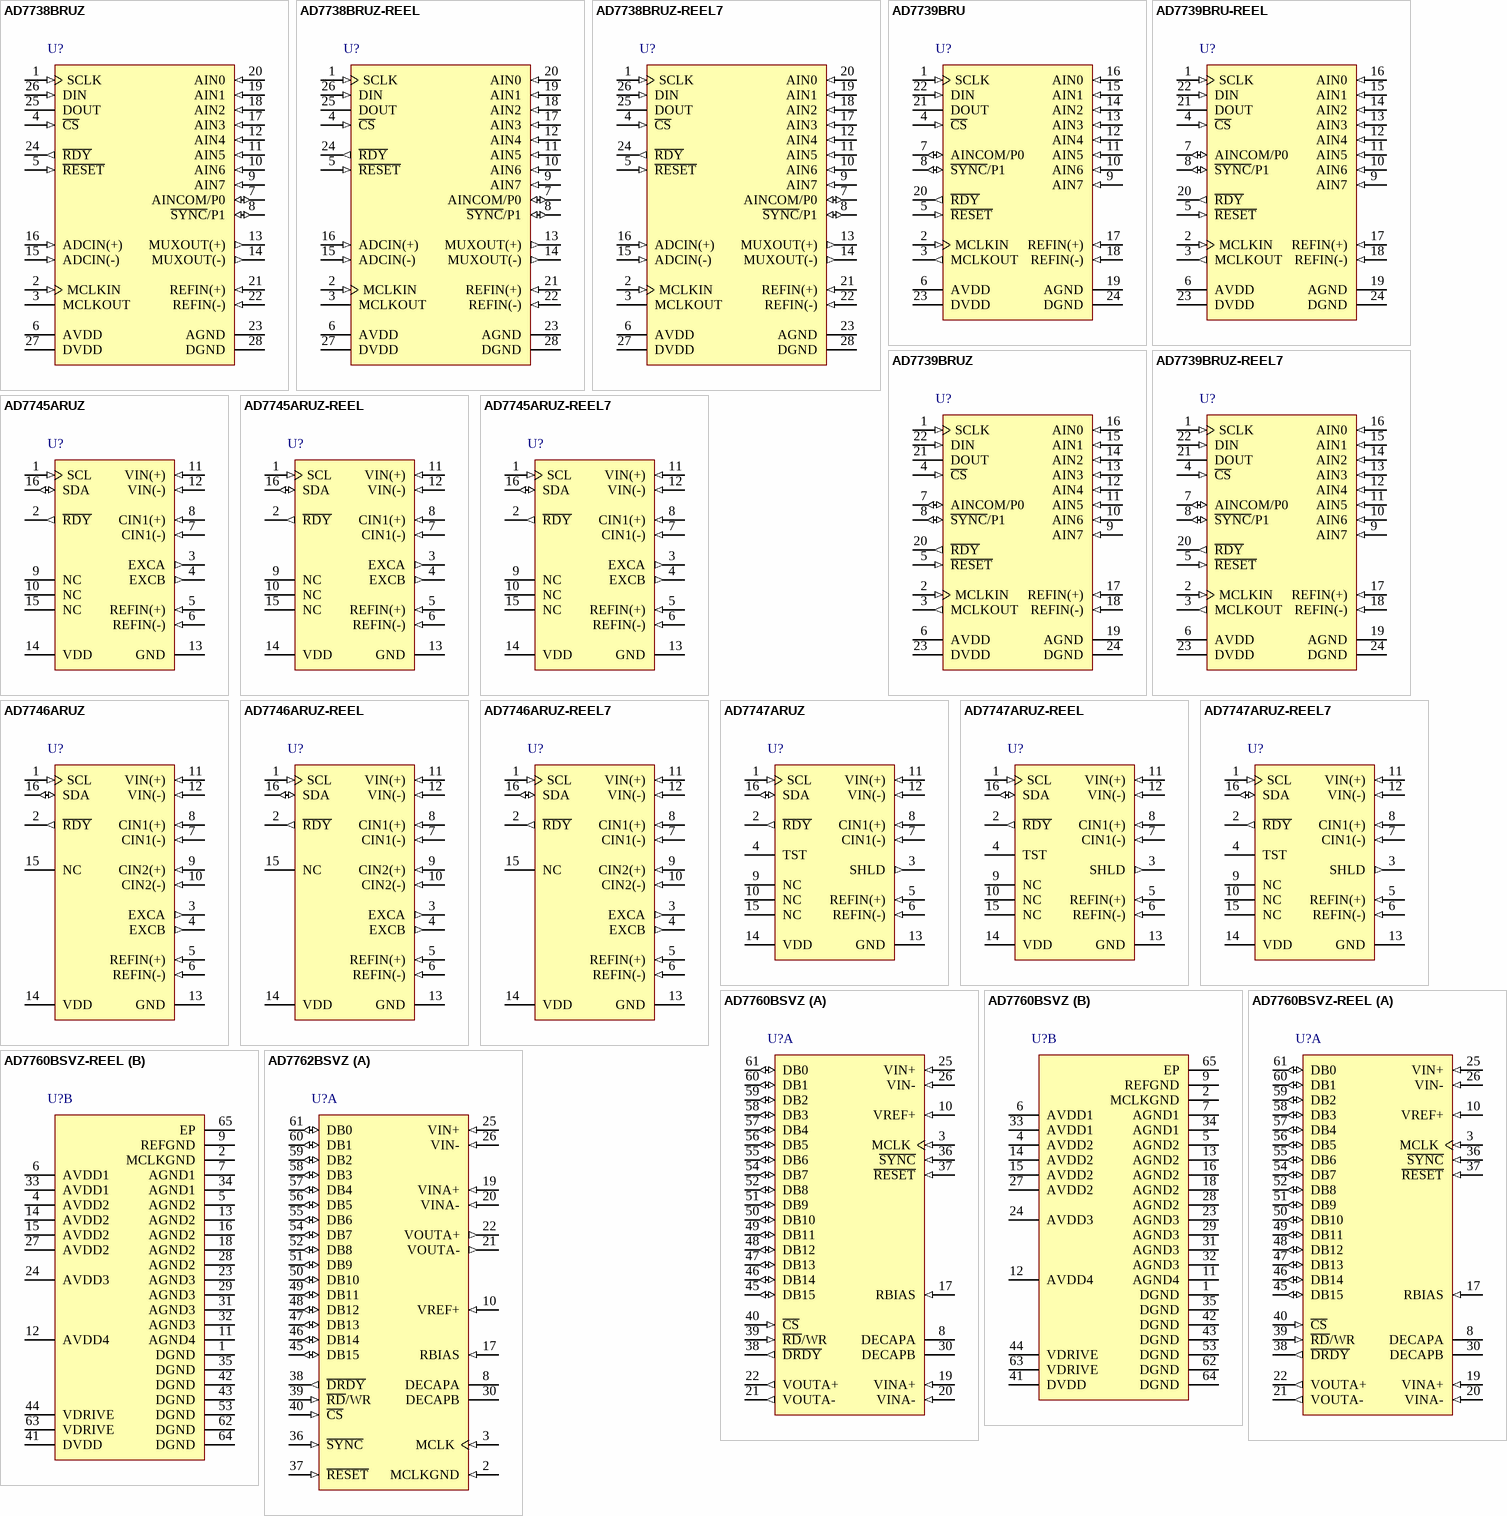
[diagram p59: symbols AD7738BRUZ to AD7762BSVZ]

## AD7738BRUZ
designator U?
Octal 24-Bit Sigma-Delta Analog-to-Digital Converter with Serial, SPI Interface, 15.4KSPS, -40 to +105 degC, RU-28, Pb-Free, Tube; Generic Part Number: AD7738; Manufacturer: Analog Devices; PartNumber: AD7738BRUZ; Resolution (Bits): 24; Channels: 8; Throughput Rate (SPS): 15.4K; Interface: Ser, SPI; DatasheetVersion: Rev.0; PackageVersion: 2005; PackageReference: RU-28; PackageDescription: 28-Lead Thin Shrink Small Outline Package [TSSOP]; Supplier 1: Digi-Key; Supplier Part Number 1: AD7738BRUZ-ND; Supplier 2: Farnell; Supplier Part Number 2: 1581939; Supplier 3: Newark; Supplier Part Number 3: 59K5398; Supplier 4: Mouser; Supplier Part Number 4: 584-AD7738BRUZ; RoHS: Y; Packing: Tube; Mounting Technology: Surface Mount; Code_JEDEC: MO-153-AE; ComponentLink1Description: Manufacturer URL; ComponentLink1URL: http://www.analog.com/en/index.html; ComponentLink2Description: Datasheet; ComponentLink2URL: http://www.analog.com/static/imported-files/data_sheets/AD7738.pdf; ComponentLink3Description: Package Specification; ComponentLink3URL: http://www.analog.com/static/imported-files/packages/249854663RU_28.pdf; ComponentLink4Description: Product URL; ComponentLink4URL: http://www.analog.com/en/analog-to-digital-converters/ad-converters/ad7738/products/product.html
footprint RU-28_N (TSOP, 28-Leads, Body 9.7x4.4mm, Pitch 0.65mm, IPC Medium Density)
footprint RU-28_L (TSOP, 28-Leads, Body 9.7x4.4mm, Pitch 0.65mm, IPC High Density)
footprint RU-28_M (TSOP, 28-Leads, Body 9.7x4.4mm, Pitch 0.65mm, IPC Low Density)
pins: 1 SCLK (in) "Serial Clock. Schmitt-Triggered Logic Input. An external serial clock is applied to this input to transfer serial data to or from the AD7738.", 2 MCLKIN (in) "Master Clock Signal for the ADC. This can be provided in the form of a crystal/resonator or external clock. A crystal/resonator can be tied across the MCLKIN and MCLKOUT pins. Alternatively, the MCLKIN pin can be driven with (See Datasheet)", 3 MCLKOUT (hiz) "When the master clock for the device is a crystal/resonator, the crystal/resonator is connected between MCLKIN and MCLKOUT. If an external clock is applied to the MCLKIN, MCLKOUT provides an inverted clock signal or can be (See Datasheet)", 4 ~{CS} (in) "Chip Select. Active low Schmitt triggered logic input with an internal pull-up resistor. With this input hardwired low, the AD7738 can operate in its 3-wire interface mode using SCLK, DIN, and DOUT. C\S\ can be used to (See Datasheet)", 5 ~{RESET} (in) "Schmitt-Triggered Logic Input. Active low input that resets the control logic, interface logic, digital filter, analog modulator, and all on-chip registers of the part to power-on status. Effectively, everything on the part (See Datasheet)", 6 AVDD (power) "Analog Positive Supply Voltage. 5 V to AGND nominal.", 7 AINCOM/P0 (io) "Analog Inputs Common Terminal/Digital Output. The pin is determined by the P0 Dir bit; the digital value can be written as the P0 bit in the I/O Port register. The digital voltage is referenced to analog supplies. When (See Datasheet)", 8 ~{SYNC}/P1 (io) "S\Y\N\C\/Digital Input/Digital Output. The pin direction is determined by the P1 Dir bit; the digital value can be read/written as the P1 bit in the I/O Port register. When the SYNC Enable bit in the I/O Port register is set (See Datasheet)", 9 AIN7 (in) "Analog Inputs", 10 AIN6 (in) "Analog Inputs", 11 AIN5 (in) "Analog Inputs", 12 AIN4 (in) "Analog Inputs", 13 MUXOUT(+) (out) "Analog Multiplexer Positive Output", 14 MUXOUT(-) (out) "Analog Multiplexer Negative Output", 15 ADCIN(-) (in) "ADC Negative Input. In normal circuit configuration, this pin should be connected to the MUXOUT- pin.", 16 ADCIN(+) (in) "ADC Positive Input. In normal circuit configuration, this pin should be connected to the MUXOUT+ pin.", 17 AIN3 (in) "Analog Inputs", 18 AIN2 (in) "Analog Inputs", 19 AIN1 (in) "Analog Inputs", 20 AIN0 (in) "Analog Inputs", 21 REFIN(+) (in) "Positive Terminal of the Differential Reference Input. REFIN+ voltage potential can lie any where between AVDD and AGND. In normal circuit configuration, this pin should be connected to a 2.5 V reference voltage.", 22 REFIN(-) (in) "Negative Terminal of the Differential Reference Input. REFIN- voltage potential can lie any where between AVDD and AGND. In normal circuit configuration, this pin should be connected to a 0 V reference voltage.", 23 AGND (power) "Ground Reference Point for Analog Circuitry", 24 ~{RDY} (out) "Logic Output. Used as a status output in both conversion mode and calibration mode. In conversion mode, a falling edge on this output indicates that either any channel or all channels have unread data available--according to (See Datasheet)", 25 DOUT (hiz) "Serial Data Output with serial data being read from the output shift register on the part. This output shift register can contain information from any AD7738 register depending on the address bits of the Communications (See Datasheet)", 26 DIN (in) "Serial Data Input (Schmitt triggered) with serial data being written to the input shift register on the part. Data from this input shift register is transferred to any AD7738 register depending on the address bits of the (See Datasheet)", 27 DVDD (power) "Digital Supply Voltage, 3 V or 5 V Nominal", 28 DGND (power) "Ground Reference Point for Digital Circuitry"

## AD7738BRUZ-REEL
designator U?
Octal 24-Bit Sigma-Delta Analog-to-Digital Converter with Serial, SPI Interface, 15.4KSPS, -40 to +105 degC, RU-28, Pb-Free, Reel; Generic Part Number: AD7738; Manufacturer: Analog Devices; PartNumber: AD7738BRUZ-REEL; Resolution (Bits): 24; Channels: 8; Throughput Rate (SPS): 15.4K; Interface: Ser, SPI; DatasheetVersion: Rev.0; PackageVersion: 2005; PackageReference: RU-28; PackageDescription: 28-Lead Thin Shrink Small Outline Package [TSSOP]; Supplier 1: Digi-Key; Supplier Part Number 1: AD7738BRUZ-REEL-ND; Supplier 2: Newark; Supplier Part Number 2: 59K5399; Supplier 3: Mouser; Supplier Part Number 3: 584-AD7738BRUZ-R; RoHS: Y; Packing: Reel; Mounting Technology: Surface Mount; Code_JEDEC: MO-153-AE; ComponentLink1Description: Manufacturer URL; ComponentLink1URL: http://www.analog.com/en/index.html; ComponentLink2Description: Datasheet; ComponentLink2URL: http://www.analog.com/static/imported-files/data_sheets/AD7738.pdf; ComponentLink3Description: Package Specification; ComponentLink3URL: http://www.analog.com/static/imported-files/packages/249854663RU_28.pdf; ComponentLink4Description: Product URL; ComponentLink4URL: http://www.analog.com/en/analog-to-digital-converters/ad-converters/ad7738/products/product.html
footprint RU-28_N (TSOP, 28-Leads, Body 9.7x4.4mm, Pitch 0.65mm, IPC Medium Density)
footprint RU-28_L (TSOP, 28-Leads, Body 9.7x4.4mm, Pitch 0.65mm, IPC High Density)
footprint RU-28_M (TSOP, 28-Leads, Body 9.7x4.4mm, Pitch 0.65mm, IPC Low Density)
pins: 1 SCLK (in) "Serial Clock. Schmitt-Triggered Logic Input. An external serial clock is applied to this input to transfer serial data to or from the AD7738.", 2 MCLKIN (in) "Master Clock Signal for the ADC. This can be provided in the form of a crystal/resonator or external clock. A crystal/resonator can be tied across the MCLKIN and MCLKOUT pins. Alternatively, the MCLKIN pin can be driven with (See Datasheet)", 3 MCLKOUT (hiz) "When the master clock for the device is a crystal/resonator, the crystal/resonator is connected between MCLKIN and MCLKOUT. If an external clock is applied to the MCLKIN, MCLKOUT provides an inverted clock signal or can be (See Datasheet)", 4 ~{CS} (in) "Chip Select. Active low Schmitt triggered logic input with an internal pull-up resistor. With this input hardwired low, the AD7738 can operate in its 3-wire interface mode using SCLK, DIN, and DOUT. C\S\ can be used to (See Datasheet)", 5 ~{RESET} (in) "Schmitt-Triggered Logic Input. Active low input that resets the control logic, interface logic, digital filter, analog modulator, and all on-chip registers of the part to power-on status. Effectively, everything on the part (See Datasheet)", 6 AVDD (power) "Analog Positive Supply Voltage. 5 V to AGND nominal.", 7 AINCOM/P0 (io) "Analog Inputs Common Terminal/Digital Output. The pin is determined by the P0 Dir bit; the digital value can be written as the P0 bit in the I/O Port register. The digital voltage is referenced to analog supplies. When (See Datasheet)", 8 ~{SYNC}/P1 (io) "S\Y\N\C\/Digital Input/Digital Output. The pin direction is determined by the P1 Dir bit; the digital value can be read/written as the P1 bit in the I/O Port register. When the SYNC Enable bit in the I/O Port register is set (See Datasheet)", 9 AIN7 (in) "Analog Inputs", 10 AIN6 (in) "Analog Inputs", 11 AIN5 (in) "Analog Inputs", 12 AIN4 (in) "Analog Inputs", 13 MUXOUT(+) (out) "Analog Multiplexer Positive Output", 14 MUXOUT(-) (out) "Analog Multiplexer Negative Output", 15 ADCIN(-) (in) "ADC Negative Input. In normal circuit configuration, this pin should be connected to the MUXOUT- pin.", 16 ADCIN(+) (in) "ADC Positive Input. In normal circuit configuration, this pin should be connected to the MUXOUT+ pin.", 17 AIN3 (in) "Analog Inputs", 18 AIN2 (in) "Analog Inputs", 19 AIN1 (in) "Analog Inputs", 20 AIN0 (in) "Analog Inputs", 21 REFIN(+) (in) "Positive Terminal of the Differential Reference Input. REFIN+ voltage potential can lie any where between AVDD and AGND. In normal circuit configuration, this pin should be connected to a 2.5 V reference voltage.", 22 REFIN(-) (in) "Negative Terminal of the Differential Reference Input. REFIN- voltage potential can lie any where between AVDD and AGND. In normal circuit configuration, this pin should be connected to a 0 V reference voltage.", 23 AGND (power) "Ground Reference Point for Analog Circuitry", 24 ~{RDY} (out) "Logic Output. Used as a status output in both conversion mode and calibration mode. In conversion mode, a falling edge on this output indicates that either any channel or all channels have unread data available--according to (See Datasheet)", 25 DOUT (hiz) "Serial Data Output with serial data being read from the output shift register on the part. This output shift register can contain information from any AD7738 register depending on the address bits of the Communications (See Datasheet)", 26 DIN (in) "Serial Data Input (Schmitt triggered) with serial data being written to the input shift register on the part. Data from this input shift register is transferred to any AD7738 register depending on the address bits of the (See Datasheet)", 27 DVDD (power) "Digital Supply Voltage, 3 V or 5 V Nominal", 28 DGND (power) "Ground Reference Point for Digital Circuitry"